# EAGLE library part ATTINY85V-10SUR (library ruark2)
AVR AVR® ATtiny, Functional Safety (FuSa) Microcontroller IC 8-Bit 10MHz 8KB (4K x 16) FLASH 8-SOIC
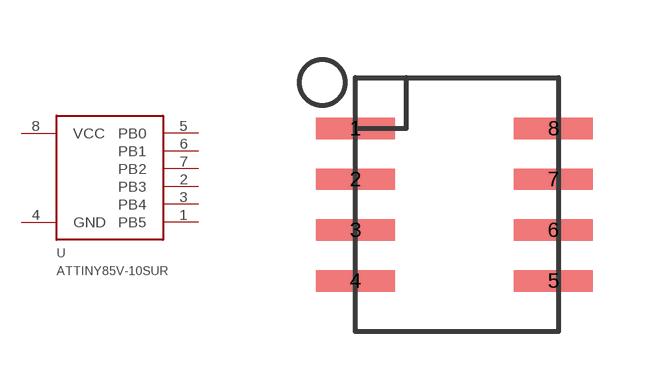
[diagram p191: symbol with the pads of SOIC8; footprint SOIC8]

Designator prefix U

## ATTINY85V-10SUR (PARTNO: ATTINY85V-10SURCT-ND)  [SOIC8]
1  PB5
2  PB3
3  PB4
4  GND
5  PB0
6  PB1
7  PB2
8  VCC

## Footprint SOIC8 (pad centres in mm)
smd 1.981 x 0.533: 1 -2.477,1.905; 2 -2.477,0.635; 3 -2.477,-0.635; 4 -2.477,-1.905; 5 2.477,-1.905; 6 2.477,-0.635; 7 2.477,0.635; 8 2.477,1.905